# Altium schematic symbol library IRLZ44N.SchLib: 10 symbols
Pins are listed as number, name and electrical type; pins without a type are passive.

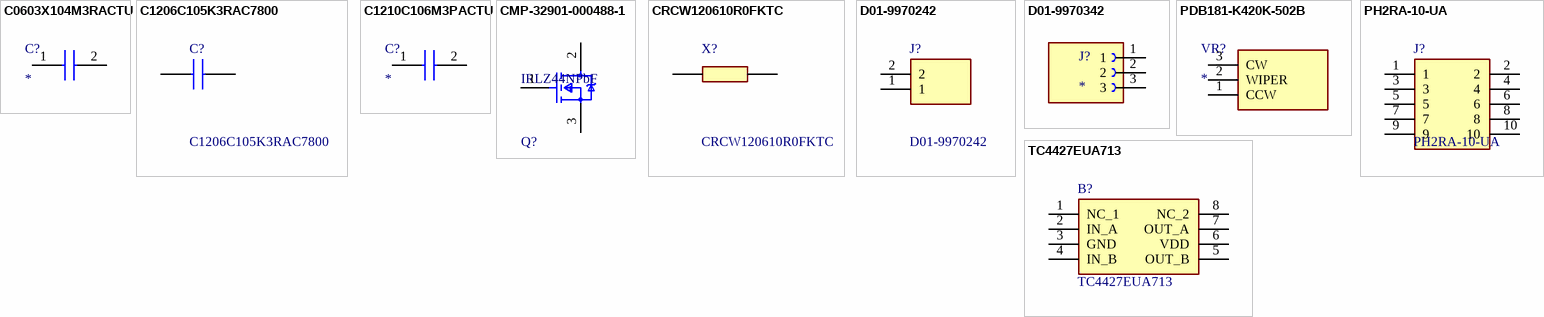
[diagram p0: symbols C0603X104M3RACTU to TC4427EUA713]

## C0603X104M3RACTU
designator C?
Capacitor; Manufacturer_Name: Yageo Group; Manufacturer_Part_Number: C0603X104M3RACTU; Datasheet Link: https://www.yageogroup.com/content/datasheet/asset/file/KEM_C1013_X7R_FT-CAP_SMD; Height: 0.87mm; Mouser Part Number: 80-C0603X104M3R; Mouser Price/Stock: https://www.mouser.co.uk/ProductDetail/KEMET/C0603X104M3RACTU?qs=p6yRp5s%252B%2FXSQKNqxiIj6xg%3D%3D; Arrow Part Number: C0603X104M3RACTU; Arrow Price/Stock: https://www.arrow.com/en/products/c0603x104m3ractu/kemet-corporation
footprint C0603
pins: 1, 2

## C1206C105K3RAC7800
designator C?
Multilayer Ceramic Capacitors MLCC - SMD/SMT 25V 1uF X7R 1206 10%; Manufacturer_Name: Yageo Group; Geometry.Height: 1.4mm; Mouser Part Number: 80-C1206C105K3R7800; Mouser Price/Stock: https://www.mouser.co.uk/ProductDetail/KEMET/C1206C105K3RAC7800?qs=9Bh1%2FLvCqWR5qBTiXKKjKA%3D%3D; Manufacturer_Part_Number: C1206C105K3RAC7800; Datasheet Link: https://connect.kemet.com:7667/gateway/IntelliData-ComponentDocumentation/1.0/download/specsheet/C1206C105K3RACTU
footprint CAPC3216X140N
pins: 1, 2

## C1210C106M3PACTU
designator C?
Capacitor; Manufacturer_Name: Yageo Group; Manufacturer_Part_Number: C1210C106M3PACTU; Datasheet Link: https://www.yageogroup.com/content/datasheet/asset/file/KEM_C1006_X5R_SMD; Mouser Part Number: 80-C1210C106M3P; Mouser Price/Stock: https://www.mouser.com/Search/Refine.aspx?Keyword=80-C1210C106M3P
footprint C1210
pins: 1, 2

## CMP-32901-000488-1
designator Q?, comment IRLZ44NPbF
MOSFET N-CH 55V 47A TO220AB; Turn-On Delay Time: 11ns; Gate to Source Voltage (Vgs): 16V; Element Configuration: Single; Rds On Max: 22mR; Turn-Off Delay Time: 26ns; Max Power Dissipation: 110W; Threshold Voltage: 2V; Drain to Source Resistance: 35mR; Input Capacitance: 1.7nF; Continuous Drain Current (ID): 47A; Case/Package: TO-220; Lead Free: Lead Free; Halogen Free: Halogen Free; Packaging: Rail/Tube; Length: 0.414inch; Min Operating Temperature: -55°C; REACH SVHC: No SVHC; Number of Pins: 3; Width: 0.185inch; Drain to Source Voltage (Vdss): 55V; Power Dissipation: 110W; RoHS Compliant: Yes; Max Operating Temperature: 175°C; Height: 0.6inch; Max Dual Supply Voltage: 55V; Drain to Source Breakdown Voltage: 55V; Mount: Through Hole
footprint FP-PG-TO220-3-MFG
pins: 1 G, 2 D, 3 S

## CRCW120610R0FKTC
designator X?
Standard Thick Film Chip Resistors value 10R0 ohm.; Manufacturer_Name: Vishay; Geometry.Height: 0.6mm; Mouser Part Number: *; Mouser Price/Stock: *; Manufacturer_Part_Number: CRCW120610R0FKTC; Datasheet Link: *
footprint RESC3216X60N
pins: 1, 2

## D01-9970242
designator J?
IC Socket: 2 Pos Receptacle SIL Straight THT Strip; Manufacturer_Name: Harwin; Geometry.Height: 4.2mm; Mouser Part Number: 855-D01-9970242; Mouser Price/Stock: https://www.mouser.co.uk/ProductDetail/Harwin/D01-9970242?qs=TpUtqFO9vU%252Bf37OJ5TYoTQ%3D%3D; Manufacturer_Part_Number: D01-9970242; Datasheet Link: https://content.harwin.com/m/e0b6c35948424a73/original/DRG-00097-Technical-Drawing-Datasheet-D01-997-pdf.pdf
footprint D019970242
pins: 1, 2

## D01-9970342
designator J?
MP: D01-9970342; Package: None; Price: None; Value: *; Availability: Unavailable
footprint HARWIN_D01-9970342
pins: 1, 2, 3

## PDB181-K420K-502B
designator VR?
Variable Resistor; Manufacturer_Name: Bourns; Manufacturer_Part_Number: PDB181-K420K-502B; Datasheet Link: https://www.bourns.com/docs/product-datasheets/PDB18.pdf; Height: 16.5mm; Mouser Part Number: 652-PDB181-K420K502B; Mouser Price/Stock: https://www.mouser.co.uk/ProductDetail/Bourns/PDB181-K420K-502B?qs=Ivs1Be2ZGq6EMYRq4LQhiA%3D%3D; Arrow Part Number: PDB181-K420K-502B; Arrow Price/Stock: https://www.arrow.com/en/products/pdb181-k420k-502b/bourns?region=nac
footprint PDB181K220K104B
pins: 1 CCW, 2 WIPER, 3 CW

## PH2RA-10-UA
designator J?
CONN HEADER R/A 10POS 2.54MM; Manufacturer_Name: Adam Tech; Geometry.Height: 5.381mm; Mouser Part Number: 737-PH2RA-10-UA; Mouser Price/Stock: https://www.mouser.co.uk/ProductDetail/Adam-Tech/PH2RA-10-UA?qs=HoCaDK9Nz5eXic%252Bmj6sc5g%3D%3D; Manufacturer_Part_Number: PH2RA-10-UA; Datasheet Link: https://app.adam-tech.com/products/download/data_sheet/200508/ph2ra-xx-ua-data-sheet.pdf
footprint HDRRA10W64P254_2X5_1270X250X538P
pins: 1, 2, 3, 4, 5, 6, 7, 8, 9, 10

## TC4427EUA713
designator B?
TC4427A Series 1.5 A 18 Vmax 7 Ohm Dual Non Inverting MOSFET Driver - MSOP-8; Manufacturer_Name: Microchip; Geometry.Height: 1.1mm; Mouser Part Number: 579-TC4427EUA713; Mouser Price/Stock: https://www.mouser.co.uk/ProductDetail/Microchip-Technology/TC4427EUA713?qs=6pREnGtJ7gG%2Fg%252Bua4Jcb3A%3D%3D; Manufacturer_Part_Number: TC4427EUA713; Datasheet Link: https://ww1.microchip.com/downloads/en/DeviceDoc/20001422G.pdf
footprint SOP65P490X110-8N
pins: 1 NC_1, 2 IN_A, 3 GND, 4 IN_B, 5 OUT_B, 6 VDD, 7 OUT_A, 8 NC_2